# EAGLE library part ADSP2189M* (library analog-devices)
DSP Microcomputer single-chip microcomputer optimized for digital signal processing (DSP)
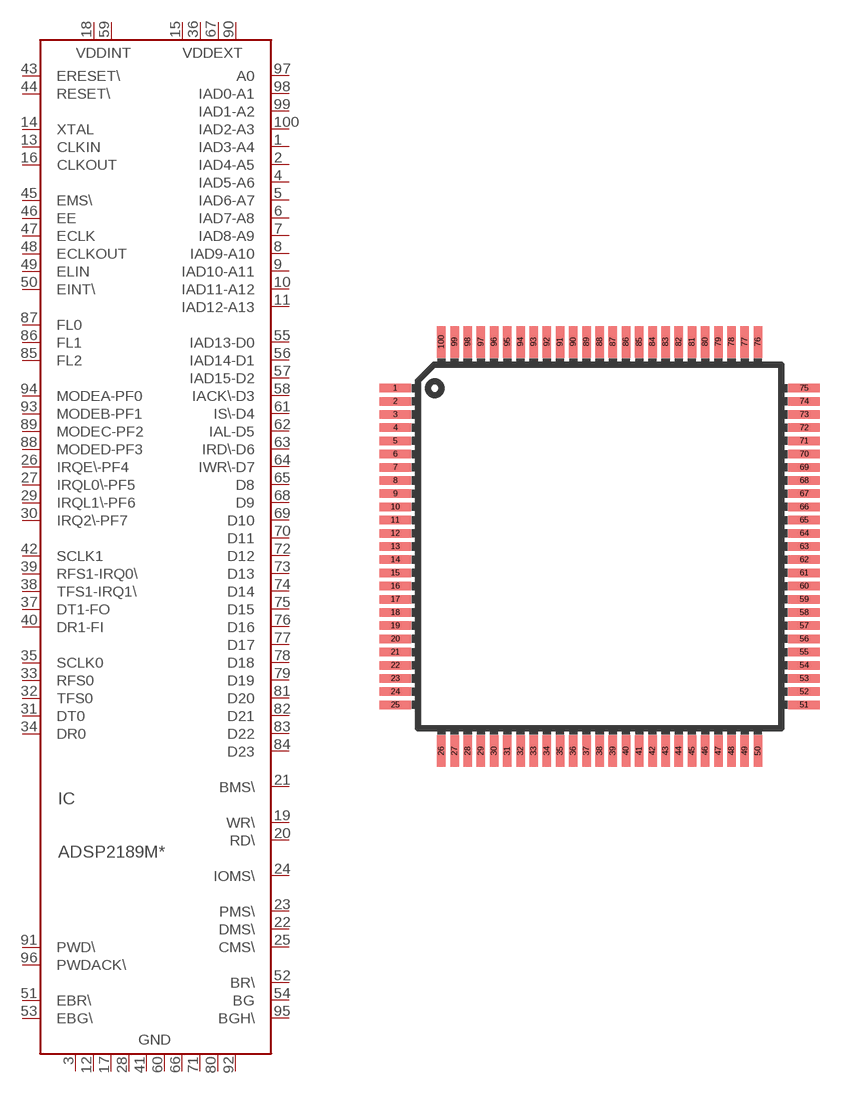
[diagram p20: symbol with the pads of LQFP100; footprint LQFP100]

Designator prefix IC

## ADSP2189MBST-266, ADSP2189MKST-300  [LQFP100]
1  IAD3-A4  out
2  IAD4-A5  out
3  GND  pwr
4  IAD5-A6  out
5  IAD6-A7  out
6  IAD7-A8  out
7  IAD8-A9  out
8  IAD9-A10  out
9  IAD10-A11  out
10  IAD11-A12  out
11  IAD12-A13  out
12  GND  pwr
13  CLKIN  in
14  XTAL  in
15  VDDEXT  pwr
16  CLKOUT  out
17  GND  pwr
18  VDDINT  pwr
19  WR\  out
20  RD\  out
21  BMS\  out
22  DMS\  out
23  PMS\  out
24  IOMS\  out
25  CMS\  out
26  IRQE\-PF4
27  IRQL0\-PF5
28  GND  pwr
29  IRQL1\-PF6
30  IRQ2\-PF7
31  DT0  out
32  TFS0
33  RFS0
34  DR0  in
35  SCLK0
36  VDDEXT  pwr
37  DT1-FO  out
38  TFS1-IRQ1\
39  RFS1-IRQ0\
40  DR1-FI  in
41  GND  pwr
42  SCLK1
43  ERESET\  in
44  RESET\  in
45  EMS\
46  EE  in
47  ECLK  in
48  ECLKOUT  out
49  ELIN  in
50  EINT\  in
51  EBR\  in
52  BR\  in
53  EBG\  out
54  BG  out
55  IAD13-D0
56  IAD14-D1
57  IAD15-D2
58  IACK\-D3
59  VDDINT  pwr
60  GND  pwr
61  IS\-D4
62  IAL-D5
63  IRD\-D6
64  IWR\-D7
65  D8
66  GND  pwr
67  VDDEXT  pwr
68  D9
69  D10
70  D11
71  GND  pwr
72  D12
73  D13
74  D14
75  D15
76  D16
77  D17
78  D18
79  D19
80  GND  pwr
81  D20
82  D21
83  D22
84  D23
85  FL2  out
86  FL1  out
87  FL0  out
88  MODED-PF3
89  MODEC-PF2
90  VDDEXT  pwr
91  PWD\  in
92  GND  pwr
93  MODEB-PF1
94  MODEA-PF0
95  BGH\  out
96  PWDACK\  out
97  A0  out
98  IAD0-A1  out
99  IAD1-A2  out
100  IAD2-A3  out

## Footprint LQFP100 (pad centres in mm)
100-Lead Metric Thin Plastic Quad Flatpack
smd 1.2 x 0.32: 1 -7.75,6; 2 -7.75,5.5; 3 -7.75,5; 4 -7.75,4.5; 5 -7.75,4; 6 -7.75,3.5; 7 -7.75,3; 8 -7.75,2.5; 9 -7.75,2; 10 -7.75,1.5; 11 -7.75,1; 12 -7.75,0.5; 13 -7.75,0; 14 -7.75,-0.5; 15 -7.75,-1; 16 -7.75,-1.5; 17 -7.75,-2; 18 -7.75,-2.5; 19 -7.75,-3; 20 -7.75,-3.5; 21 -7.75,-4; 22 -7.75,-4.5; 23 -7.75,-5; 24 -7.75,-5.5; 25 -7.75,-6; 51 7.75,-6; 52 7.75,-5.5; 53 7.75,-5; 54 7.75,-4.5; 55 7.75,-4; 56 7.75,-3.5; 57 7.75,-3; 58 7.75,-2.5; 59 7.75,-2; 60 7.75,-1.5; 61 7.75,-1; 62 7.75,-0.5; 63 7.75,0; 64 7.75,0.5; 65 7.75,1; 66 7.75,1.5; 67 7.75,2; 68 7.75,2.5; 69 7.75,3; 70 7.75,3.5; 71 7.75,4; 72 7.75,4.5; 73 7.75,5; 74 7.75,5.5; 75 7.75,6
smd 0.32 x 1.2: 26 -6,-7.75; 27 -5.5,-7.75; 28 -5,-7.75; 29 -4.5,-7.75; 30 -4,-7.75; 31 -3.5,-7.75; 32 -3,-7.75; 33 -2.5,-7.75; 34 -2,-7.75; 35 -1.5,-7.75; 36 -1,-7.75; 37 -0.5,-7.75; 38 0,-7.75; 39 0.5,-7.75; 40 1,-7.75; 41 1.5,-7.75; 42 2,-7.75; 43 2.5,-7.75; 44 3,-7.75; 45 3.5,-7.75; 46 4,-7.75; 47 4.5,-7.75; 48 5,-7.75; 49 5.5,-7.75; 50 6,-7.75; 76 6,7.75; 77 5.5,7.75; 78 5,7.75; 79 4.5,7.75; 80 4,7.75; 81 3.5,7.75; 82 3,7.75; 83 2.5,7.75; 84 2,7.75; 85 1.5,7.75; 86 1,7.75; 87 0.5,7.75; 88 0,7.75; 89 -0.5,7.75; 90 -1,7.75; 91 -1.5,7.75; 92 -2,7.75; 93 -2.5,7.75; 94 -3,7.75; 95 -3.5,7.75; 96 -4,7.75; 97 -4.5,7.75; 98 -5,7.75; 99 -5.5,7.75; 100 -6,7.75